# Altium footprint library INF-TSLP-3-1_V.PcbLib: 1 footprints
Each footprint in its own frame and in the unit in brackets; x right, y up, seen from the top. Pads: shape width x height; smd on the part's side, far side on the other; paste and mask are expansions set on the pad; w line width, h text height; cw(c..) or ccw(c..) is an arc to the next point about the centre after c.
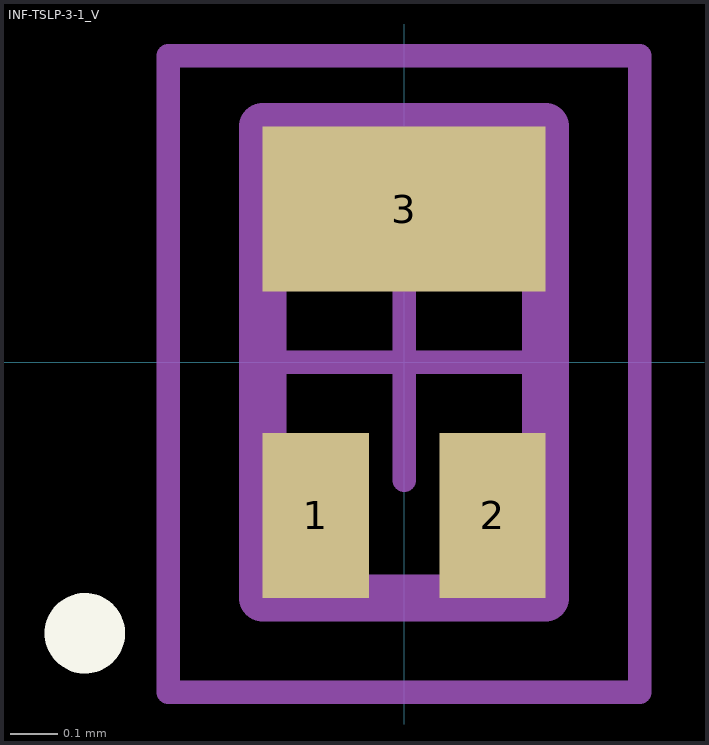
[diagram p0: the footprint, top view; thin cyan lines are the x and y axes]

## INF-TSLP-3-1_V [mm] "TSLP, 3-Leads, Body 0.6x1 mm"
height 0.5
pads (3):
  rect 0.225x0.35 smd: 1(-0.188,-0.325) 2(0.188,-0.325)
  rect 0.6x0.35 smd: 3(0,0.325)
Top Overlay:
  circle w0.1: c-0.677,-0.575 r0.035
Mechanical 13:
  lines w0.1: -0.3,-0.5 -0.3,0.5 0.3,0.5 0.3,-0.5 -0.3,-0.5
Mechanical 15:
  lines w0.05: -0.25,0 0.25,0 ; 0,-0.25 0,0.25 ; -0.5,-0.7 -0.5,0.65 0.5,0.65 0.5,-0.7 -0.5,-0.7
3D body: height 0.5, standoff 0, extent -0.3,-0.5 0.3,0.5